# EAGLE library part MCP4706 (library Bits_library_eagle)
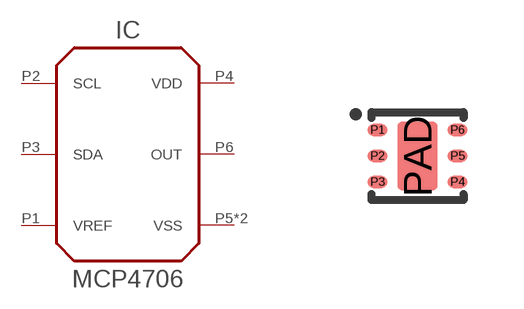
[diagram p66: symbol with the pads of TDFN-6_PAD; footprint TDFN-6_PAD]

Designator prefix IC

## MCP4706DFN6  [TDFN-6_PAD]
P1  VREF  pas
P2  SCL
P3  SDA
P4  VDD  pwr
P5  VSS  pwr
P6  OUT  pas
PAD  VSS  pwr

## Footprint TDFN-6_PAD (pad centres in mm)
smd 0.5 x 0.3: P1 -1,0.65; P2 -1,0; P3 -1,-0.65; P4 1,-0.65; P5 1,0; P6 1,0.65
smd 1 x 1.7: PAD 0,0